# Altium schematic symbol library TCXO_Murata_XTCLH50M000CHJA3P0_50MHz.SchLib: 1 symbol
Pins are listed as number, name and electrical type; pins without a type are passive.

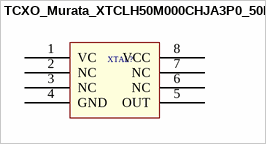
[diagram p0: symbol TCXO_Murata_XTCLH50M000CHJA3P0_50MHz]

## TCXO_Murata_XTCLH50M000CHJA3P0_50MHz
designator XTAL?  (value not drawn)
TCXO Oscillators 50MHz 5x3.2x1.5mm 0.2ppm max Crystal; Supplier 1: Mouser; Supplier Part Number 1: 81-XTCLH50M000CHJA3P; Supplier 2: Digi-Key; Supplier Part Number 2: 490-18042-1-ND
footprint TCXO_Murata_XTCLH50M000CHJA3P0_50MHz (TCXO Oscillators 50MHz 5x3.2x1.5mm 0.28ppm max Crystal)
pins: 1 VC, 2 NC, 3 NC, 4 GND, 5 OUT, 6 NC, 7 NC, 8 VCC